# Altium footprint library 1206Capacitor.PcbLib: 3 footprints
Each footprint in its own frame and in the unit in brackets; x right, y up, seen from the top. Pads: shape width x height; smd on the part's side, far side on the other; paste and mask are expansions set on the pad; w line width, h text height; cw(c..) or ccw(c..) is an arc to the next point about the centre after c.
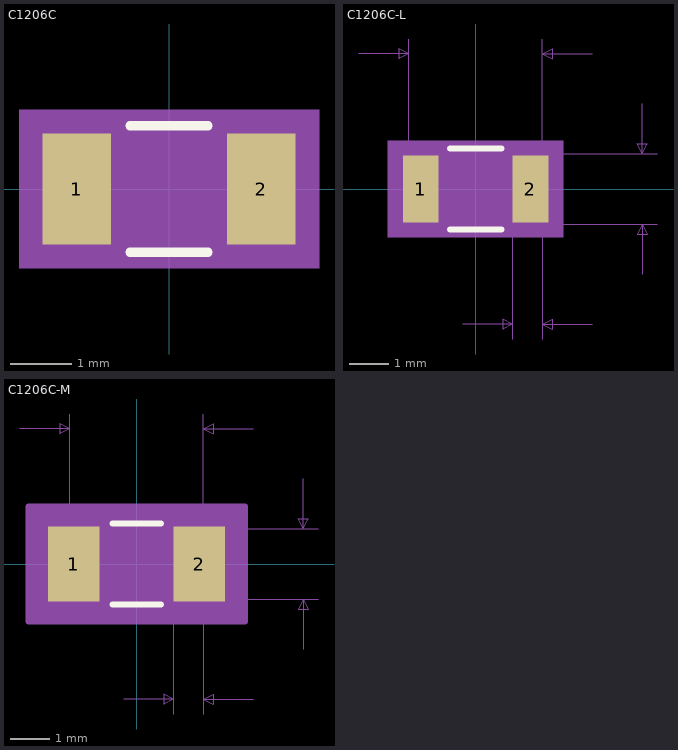
[diagram p0: the footprints below, top view; thin cyan lines are the x and y axes]

## C1206C [mil]
pads (2):
  rect 43.78x71 smd paste+0 mask+0: 1(-58.89,0) 2(58.89,0)
Top Overlay:
  lines w6: -24.89,-40.5 24.89,-40.5 ; -24.89,40.5 24.89,40.5
Mechanical 5:
  region: 95.78,-50.5 -95.78,-50.5 -95.78,50.5 95.78,50.5
Mechanical 13:
  lines w1: -67,-35.5 -67,35.5 ; -67,-35.5 67,-35.5 ; -67,-35.5 -37,-35.5 -37,35.5 -67,35.5 ; -67,-35.5 -67,35.5 ; -67,35.5 67,35.5 ; 67,-35.5 67,35.5 ; 67,-35.5 67,35.5 ; 67,-35.5 37,-35.5 37,35.5 67,35.5
Mechanical 15:
  region: 90.78,-45.5 -90.78,-45.5 -90.78,45.5 90.78,45.5
  lines w6: -90.78,-45.5 90.78,-45.5 90.78,45.5 -90.78,45.5 -90.78,-45.5
3D body: height 10, standoff 0, extent 0,0 10,10

## C1206C-L [mil]
pads (2):
  rect 35.91x67.06 smd paste+0 mask+0: 1(-54.95,0) 2(54.95,0)
Top Overlay:
  lines w6: -25.91,-40.5 25.91,-40.5 ; -25.91,40.5 25.91,40.5
Mechanical 5:
  region: 87.91,-48.53 -87.91,-48.53 -87.91,48.53 87.91,48.53
Mechanical 7:
  lines w1: -117,135.5 -67,135.5 ; -67,0 -67,150.5 ; -13,-135.5 37,-135.5 ; 0,-35.5 182,-35.5 ; 0,35.5 182,35.5 ; 37,-150.5 37,0 ; 67,-150.5 67,0 67,150.5 ; 117,-135.5 67,-135.5 ; 117,135.5 67,135.5 ; 167,-85.5 167,-35.5 ; 167,85.5 167,35.5 ; -67,135.5 -77,140.5 -77,130.5 -67,135.5 ; 37,-135.5 27,-130.5 27,-140.5 37,-135.5 ; 67,-135.5 77,-130.5 77,-140.5 67,-135.5 ; 67,135.5 77,140.5 77,130.5 67,135.5 ; 167,-35.5 162,-45.5 172,-45.5 167,-35.5 ; 167,35.5 162,45.5 172,45.5 167,35.5
  text "Default Padstyle: r91_170" at -312.5,-303.53 h50
  text "Alternate 1 Padstyle: b152_229h76" at -412.5,-403.53 h50
  text "Alternate 2 Padstyle: b229_152h76" at -412.5,-503.53 h50
  text "0.071in/1.803mm" at 187,-12.5 h25
  text "0.134in/3.404mm" at -93.75,155.5 h25
  text "0.03in/0.762mm" at -35.5,-180.5 h25
Mechanical 13:
  lines w1: -67,-35.5 -67,35.5 ; -67,-35.5 -37,-35.5 -37,35.5 -67,35.5 ; -67,-35.5 67,-35.5 ; -67,-35.5 -67,35.5 ; -67,35.5 67,35.5 ; 67,-35.5 37,-35.5 37,35.5 67,35.5 ; 67,-35.5 67,35.5 ; 67,-35.5 67,35.5
Mechanical 15:
  region: 76.91,-37.53 -76.91,-37.53 -76.91,37.53 76.91,37.53
  lines w6: -76.91,-37.53 -76.91,37.53 76.91,37.53 76.91,-37.53 -76.91,-37.53
3D body: height 10, standoff 0, extent 0,0 10,10

## C1206C-M [mil]
pads (2):
  rect 51.65x74.94 smd paste+0 mask+0: 1(-62.83,0) 2(62.83,0)
Top Overlay:
  lines w6: -24.26,-40.5 24.26,-40.5 ; -24.26,40.5 24.26,40.5
Mechanical 5:
  region: 103.65,-52.47 -103.65,-52.47 -103.65,52.47 103.65,52.47
Mechanical 7:
  lines w1: -117,135.5 -67,135.5 ; -67,0 -67,150.5 ; -13,-135.5 37,-135.5 ; 0,-35.5 182,-35.5 ; 0,35.5 182,35.5 ; 37,-150.5 37,0 ; 67,-150.5 67,0 67,150.5 ; 117,-135.5 67,-135.5 ; 117,135.5 67,135.5 ; 167,-85.5 167,-35.5 ; 167,85.5 167,35.5 ; -67,135.5 -77,140.5 -77,130.5 -67,135.5 ; 37,-135.5 27,-130.5 27,-140.5 37,-135.5 ; 67,-135.5 77,-130.5 77,-140.5 67,-135.5 ; 67,135.5 77,140.5 77,130.5 67,135.5 ; 167,-35.5 162,-45.5 172,-45.5 167,-35.5 ; 167,35.5 162,45.5 172,45.5 167,35.5
  text "Default Padstyle: r131_190" at -325,-307.47 h50
  text "Alternate 1 Padstyle: b152_229h76" at -412.5,-407.47 h50
  text "Alternate 2 Padstyle: b229_152h76" at -412.5,-507.47 h50
  text "0.071in/1.803mm" at 187,-12.5 h25
  text "0.134in/3.404mm" at -93.75,155.5 h25
  text "0.03in/0.762mm" at -35.5,-180.5 h25
Mechanical 13:
  lines w1: -67,-35.5 -67,35.5 ; -67,-35.5 -37,-35.5 -37,35.5 -67,35.5 ; -67,-35.5 67,-35.5 ; -67,-35.5 -67,35.5 ; -67,35.5 67,35.5 ; 67,-35.5 37,-35.5 37,35.5 67,35.5 ; 67,-35.5 67,35.5 ; 67,-35.5 67,35.5
Mechanical 15:
  region: 108.65,-57.47 -108.65,-57.47 -108.65,57.47 108.65,57.47
  lines w6: -108.65,-57.47 -108.65,57.47 108.65,57.47 108.65,-57.47 -108.65,-57.47
3D body: height 10, standoff 0, extent 0,0 10,10